# EAGLE library part 5499910-2 (library Tyco_By_element14_Batch_1)
WIRE-BOARD CONN, HEADER, 14POS, 2.54MM
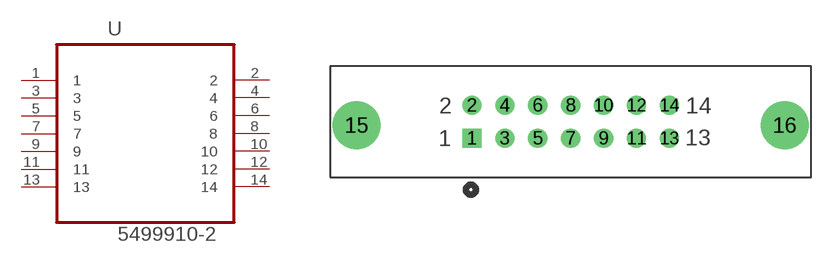
[diagram p145: symbol with the pads of TYCO_5499910-2; footprint TYCO_5499910-2]

Designator prefix U

## 5499910-2 (MPN: 5499910-2; OC_FARNELL: 1823398; OC_NEWARK: 42K7205; PACKAGE: HEADER, 14POS, 2.54MM; SUPPLIER: TycoElectronics)  [TYCO_5499910-2]
1  1  pas
2  2  pas
3  3  pas
4  4  pas
5  5  pas
6  6  pas
7  7  pas
8  8  pas
9  9  pas
10  10  pas
11  11  pas
12  12  pas
13  13  pas
14  14  pas

## Footprint TYCO_5499910-2 (pad centres in mm)
drill 0.965 square: 1 -15.24,-2.54
drill 0.965: 2 -15.24,0; 3 -12.7,-2.54; 4 -12.7,0; 5 -10.16,-2.54; 6 -10.16,0; 7 -7.62,-2.54; 8 -7.62,0; 9 -5.08,-2.54; 10 -5.08,0; 11 -2.54,-2.54; 12 -2.54,0; 13 0,-2.54; 14 0,0
drill 2.692: 15 -24.13,-1.524; 16 8.89,-1.524